# Altium schematic symbol library KR-5R5C105-R.SchLib: 1 symbol
Pins are listed as number, name and electrical type; pins without a type are passive.

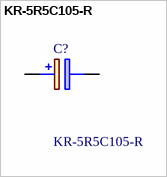
[diagram p0: symbol KR-5R5C105-R]

## KR-5R5C105-R
designator C?
Supercapacitors / Ultracapacitors 1F 5.5V EDLC Coin Cell Cyl; Manufacturer_Name: Eaton; Geometry.Height: 7.1mm; Mouser Part Number: 504-KR-5R5C105-R; Mouser Price/Stock: https://www.mouser.co.uk/ProductDetail/Eaton-Electronics/KR-5R5C105-R?qs=9GX7soZQXxFI7DTVwcJg9Q%3D%3D; Manufacturer_Part_Number: KR-5R5C105-R; Datasheet Link: https://www.eaton.com/content/dam/eaton/products/electronic-components/resources/data-sheet/eaton-kr-supercapacitors-coin-cells-data-sheet.pdf
footprint KR5R5C105R
pins: 1 +, 2 -